# EAGLE library part ARDUINO_PRO_MICRO (library pie)
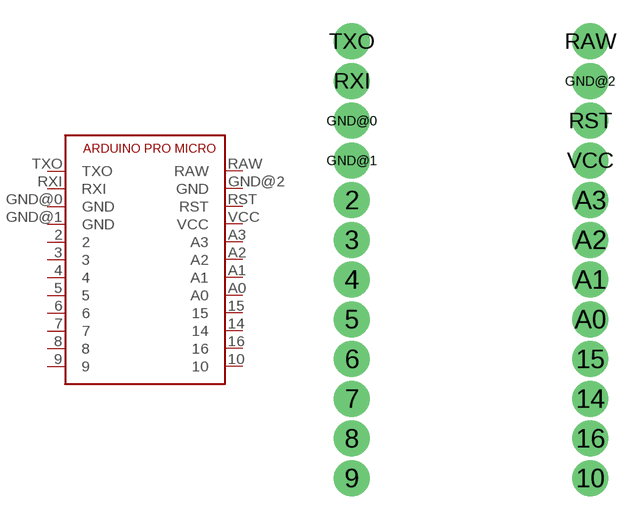
[diagram p34: symbol with the pads of ARDUINO_PRO_MICRO; footprint ARDUINO_PRO_MICRO]

Designator prefix -

## ARDUINO_PRO_MICRO  [ARDUINO_PRO_MICRO]
2  2
3  3
4  4
5  5
6  6
7  7
8  8
9  9
10  10
14  14
15  15
16  16
A0  A0
A1  A1
A2  A2
A3  A3
GND@0  GND
GND@1  GND
GND@2  GND
RAW  RAW
RST  RST
RXI  RXI
TXO  TXO
VCC  VCC

## Footprint ARDUINO_PRO_MICRO (pad centres in mm)
drill 1 pad 2.286: 2 1.27,19.05; 3 1.27,16.51; 4 1.27,13.97; 5 1.27,11.43; 6 1.27,8.89; 7 1.27,6.35; 8 1.27,3.81; 9 1.27,1.27; 10 16.51,1.27; 14 16.51,6.35; 15 16.51,8.89; 16 16.51,3.81; A0 16.51,11.43; A1 16.51,13.97; A2 16.51,16.51; A3 16.51,19.05; GND@0 1.27,24.13; GND@1 1.27,21.59; GND@2 16.51,26.67; RAW 16.51,29.21; RST 16.51,24.13; RXI 1.27,26.67; TXO 1.27,29.21; VCC 16.51,21.59